# Altium schematic symbol library TRANSISTOR.SchLib: 20 symbols
Pins are listed as number, name and electrical type; pins without a type are passive.

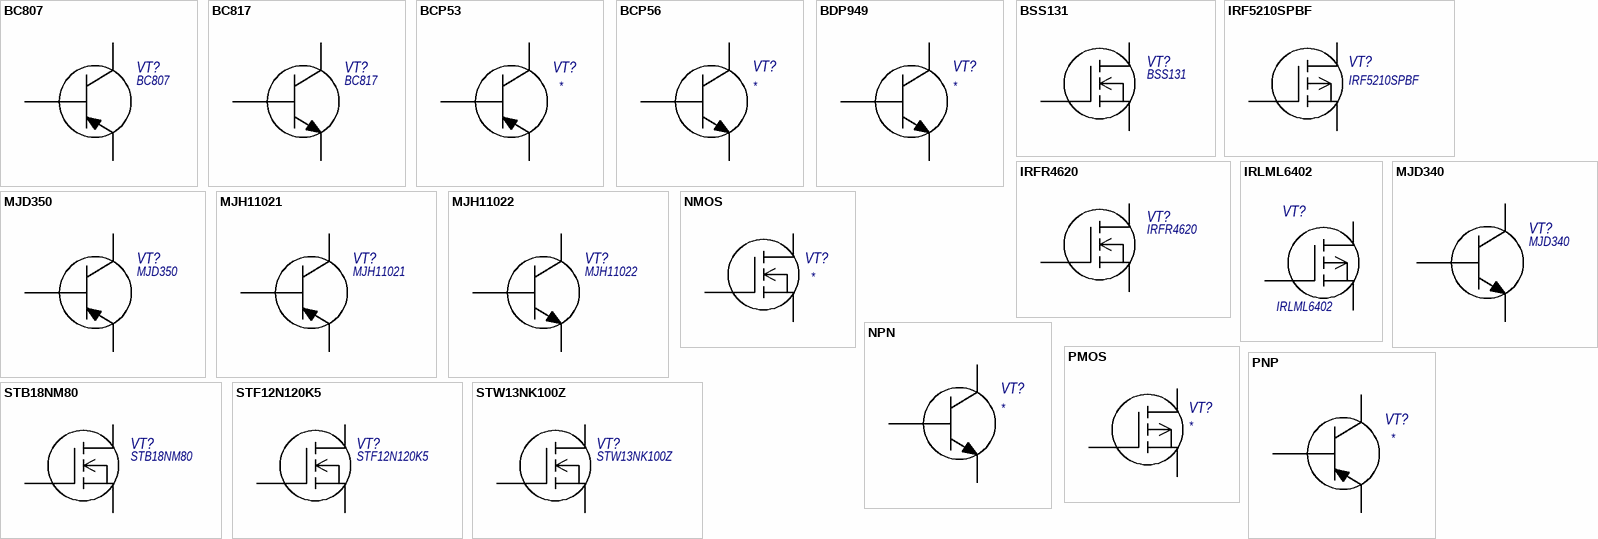
[diagram p0: symbols BC807 to STW13NK100Z]

## BC807
designator VT?  Type: BC807  (hidden comment: *)
footprint SOT-23
pins: 1, 2, 3

## BC817
designator VT?  Type: BC817  (hidden comment: *)
footprint SOT-23
pins: 1, 2, 3

## BCP53
designator VT?
Type: *
footprint SOT-223
pins: 1 B, 2 C, 3 E

## BCP56
designator VT?
Type: *
footprint SOT-223
pins: 1 B, 2 C, 3 E

## BDP949
designator VT?
Type: *
footprint SOT-223
pins: 1 B, 2 C, 3 E

## BSS131
designator VT?  Type: BSS131  (hidden comment: *)
footprint SOT-23
pins: 1, 2, 3

## IRF5210SPBF
designator VT?  (value not drawn)
IRF5210SPBF; Type: IRF5210SPBF
footprint D2PAK
pins: 1 G, 2 D, 3 S

## IRFR4620
designator VT?  Type: IRFR4620  (hidden comment: *)
footprint D-PAK
pins: 1, 2, 3

## IRLML6402
designator VT?  Type: IRLML6402  (hidden comment: *)
footprint SOT-23
pins: 1 G, 2 S, 3 D

## MJD340
designator VT?  Type: MJD340  (hidden comment: *)
footprint D-PAK
pins: 1, 2, 3

## MJD350
designator VT?  Type: MJD350  (hidden comment: *)
footprint D-PAK
pins: 1, 2, 3

## MJH11021
designator VT?  Type: MJH11021  (hidden comment: *)
footprint TO-247
pins: 1, 2, 3

## MJH11022
designator VT?  Type: MJH11022  (hidden comment: *)
footprint TO-247
pins: 1, 2, 3

## NMOS
designator VT?
Type: *
pins: D, G, S

## NPN
designator VT?
Type: *
pins: B, C, E

## PMOS
designator VT?
Type: *
pins: D, G, S

## PNP
designator VT?
Type: *
pins: B, C, E

## STB18NM80
designator VT?  Type: STB18NM80  (hidden comment: *)
footprint D2PAK
pins: 1, 2, 3

## STF12N120K5
designator VT?  Type: STF12N120K5  (hidden comment: *)
footprint TO-220
pins: 1, 2, 3

## STW13NK100Z
designator VT?  Type: STW13NK100Z  (hidden comment: *)
footprint TO-247
pins: 1, 2, 3